# EAGLE library part PIN_HEADER_2X5 (library midi)
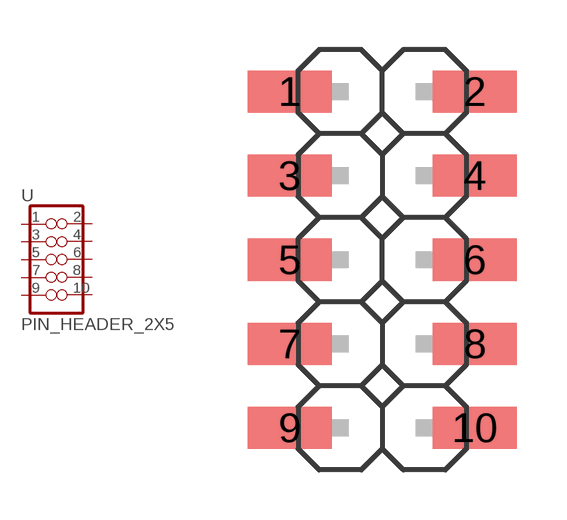
[diagram p1: symbol with the pads of PINH_2X5_SMD; footprint PINH_2X5_SMD]

Designator prefix -

## PIN_HEADER_2X5  [PINH_2X5_SMD]
1  1  pas
2  2  pas
3  3  pas
4  4  pas
5  5  pas
6  6  pas
7  7  pas
8  8  pas
9  9  pas
10  10  pas

## Footprint PINH_2X5_SMD (pad centres in mm)
smd 2.54 x 1.27: 1 -2.794,5.08; 2 2.794,5.08; 3 -2.794,2.54; 4 2.794,2.54; 5 -2.794,0; 6 2.794,0; 7 -2.794,-2.54; 8 2.794,-2.54; 9 -2.794,-5.08; 10 2.794,-5.08